# EAGLE library part 20R-JMCS-G (library jst-jmc)
0.5mm Pitch SMT Board to Board Connector Source: http://www.jst-mfg.com/product/pdf/jpn/JMC.pdf http://www.jst-mfg.com/product/detail.php?series=147
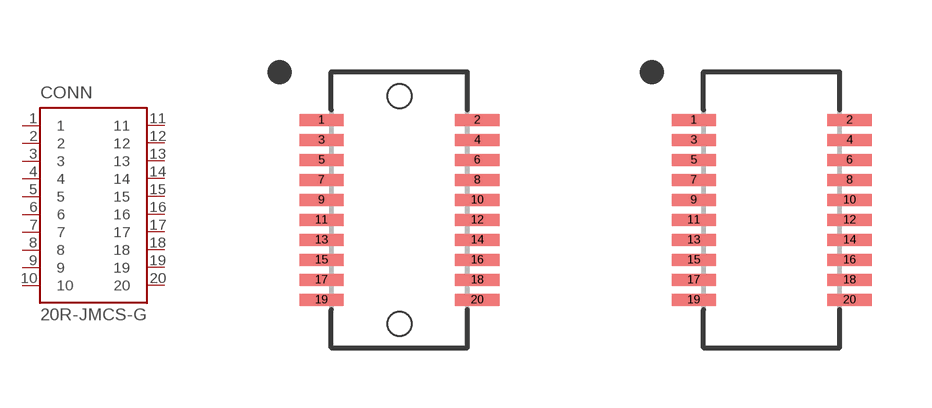
[diagram p13: symbol with the pads of 20R-JMCS-G-B-TF(S); footprints 20R-JMCS-G-B-TF(S), 20R-JMCS-G-TF(S)]

Designator prefix CONN

## 20R-JMCS-G-B-TE(S)  [20R-JMCS-G-B-TF(S)]
1  1
2  2
3  3
4  4
5  5
6  6
7  7
8  8
9  9
10  10
11  11
12  12
13  13
14  14
15  15
16  16
17  17
18  18
19  19
20  20

## 20R-JMCS-G-TE(S)  [20R-JMCS-G-TF(S)]
Pads as for 20R-JMCS-G-B-TF(S)

## Footprint 20R-JMCS-G-B-TF(S) (pad centres in mm)
smd 1.1 x 0.3: 1 -1.95,2.25; 2 1.95,2.25; 3 -1.95,1.75; 4 1.95,1.75; 5 -1.95,1.25; 6 1.95,1.25; 7 -1.95,0.75; 8 1.95,0.75; 9 -1.95,0.25; 10 1.95,0.25; 11 -1.95,-0.25; 12 1.95,-0.25; 13 -1.95,-0.75; 14 1.95,-0.75; 15 -1.95,-1.25; 16 1.95,-1.25; 17 -1.95,-1.75; 18 1.95,-1.75; 19 -1.95,-2.25; 20 1.95,-2.25
hole 0.6 at 0,2.85
hole 0.6 at 0,-2.85

## Footprint 20R-JMCS-G-TF(S) (pad centres in mm)
smd 1.1 x 0.3: 1 -1.95,2.25; 2 1.95,2.25; 3 -1.95,1.75; 4 1.95,1.75; 5 -1.95,1.25; 6 1.95,1.25; 7 -1.95,0.75; 8 1.95,0.75; 9 -1.95,0.25; 10 1.95,0.25; 11 -1.95,-0.25; 12 1.95,-0.25; 13 -1.95,-0.75; 14 1.95,-0.75; 15 -1.95,-1.25; 16 1.95,-1.25; 17 -1.95,-1.75; 18 1.95,-1.75; 19 -1.95,-2.25; 20 1.95,-2.25